# Altium schematic symbol library Header IDC 12.SchLib: 1 symbol
Pins are listed as number, name and electrical type; pins without a type are passive.

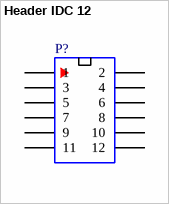
[diagram p0: symbol Header IDC 12]

## Header IDC 12
designator P?
Boxed/shrouded header, 2×6, 12-Pin (IDC)
pins: 1, 2, 3, 4, 5, 6, 7, 8, 9, 10, 11, 12